# Altium footprint library RELAY HIGH POWER (NO).PcbLib: 1 footprints
Each footprint in its own frame and in the unit in brackets; x right, y up, seen from the top. Pads: shape width x height; smd on the part's side, far side on the other; paste and mask are expansions set on the pad; w line width, h text height; cw(c..) or ccw(c..) is an arc to the next point about the centre after c.
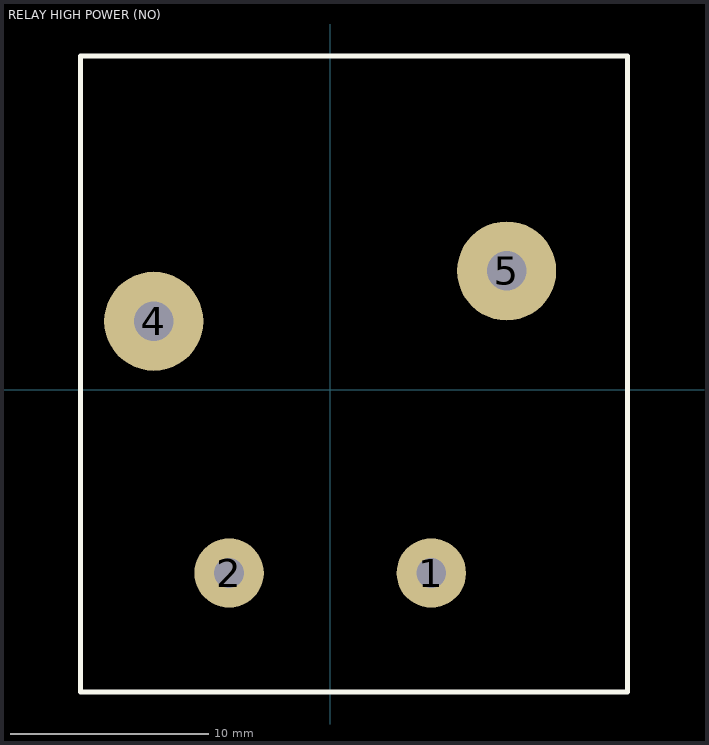
[diagram p0: the footprint, top view; thin cyan lines are the x and y axes]

## RELAY HIGH POWER (NO) [mm] "MINIATURE HIGH POWER RELAY"
height 28
pads (4):
  round 3.5 hole 1.5 mask+0.178: 1(5.1,-9.24) 2(-5.1,-9.24)
  round 5 hole 2 mask+0.178: 4(-8.9,3.46) 5(8.9,6)
Top Overlay:
  lines w0.25: -12.6,-15.25 -12.6,16.85 15,16.85 15,-15.25 -12.6,-15.25
3D body "HF105F-2 1H.stp": height 27.8, standoff -3.6, extent -12.575,-15.15 14.925,16.85